# Altium footprint library ChargerPowerBuck2021.PcbLib: 10 footprints
Each footprint in its own frame and in the unit in brackets; x right, y up, seen from the top. Pads: shape width x height; smd on the part's side, far side on the other; paste and mask are expansions set on the pad; w line width, h text height; cw(c..) or ccw(c..) is an arc to the next point about the centre after c.
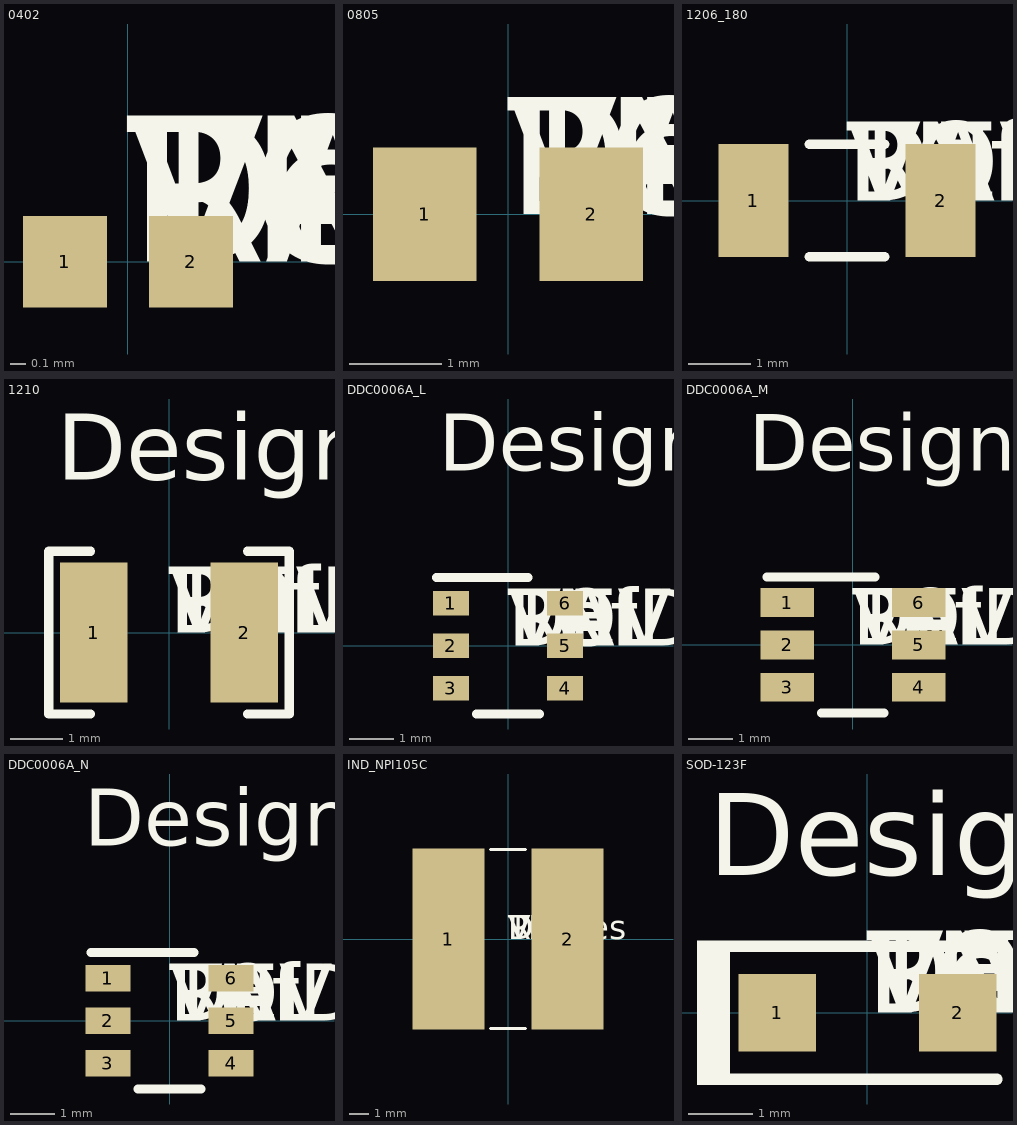
[diagram p0: the footprints below, top view; thin cyan lines are the x and y axes]

## 0402 [mil]
pads (2):
  rect 22x24 smd: 1(-16.5,0) 2(16.5,0)
Top Overlay:
  text "TOL" at 0,0 h50
  text "VAL" at 0,0 h50
  text "DEV" at 0,0 h50
  text "PN" at 0,0 h50
  text "DEV" at 0,0 h50
  text "RefDes" at 0,0 h50
3D body "0402.stp": height 22, standoff 0, extent -21.5,-12 21.5,12

## 0805 [mil]
pads (2):
  rect 44x57 smd: 1(-35.5,0) 2(35.5,0)
Top Overlay:
  text "RefDes" at 0,0 h50
  text "DEV" at 0,0 h50
  text "PN" at 0,0 h50
  text "DEV" at 0,0 h50
  text "VAL" at 0,0 h50
  text "TOL" at 0,0 h50
3D body "0805.stp": height 57, standoff 0, extent -43.5,-28.5 43.5,28.5

## 1206_180 [mil]
pads (2):
  rect 44x71 smd: 1(-59,0) 2(59,0)
Top Overlay:
  lines w6: -23.9,-35.5 23.9,-35.5 ; -23.9,35.5 23.9,35.5
  text "RefDes" at 0,0 h50
  text "DEV" at 0,0 h50
  text "PN" at 0,0 h50
  text "DEV" at 0,0 h50
  text "VAL" at 0,0 h50
  text "TOL" at 0,0 h50
3D body "1206_180.stp": height 30, standoff 0, extent -67,-35.5 67,35.5

## 1210 [mm]
pads (2):
  rect 1.3x2.7 smd paste+0 mask+0.051: 1(-1.45,0) 2(1.45,0)
Top Overlay:
  lines w0.178: -1.511,-1.568 -2.316,-1.568 -2.316,1.568 -1.511,1.568 ; 1.511,-1.568 2.316,-1.568 2.316,1.568 1.511,1.568
  text "Designator85" at -2.159,2.938 h1.27
  text "RefDes" at 0,0 h1.27
  text "DEV" at 0,0 h1.27
  text "PN" at 0,0 h1.27
  text "DEV" at 0,0 h1.27
  text "VAL" at 0,0 h1.27
  text "TOL" at 0,0 h1.27
3D body: height 0.25, standoff 0, extent 0,0 0.254,0.254

## DDC0006A_L [mm]
pads (6):
  rect 0.8x0.55 smd paste+0 mask+0.051: 1(-1.275,0.95) 2(-1.275,0) 3(-1.275,-0.95) 4(1.275,-0.95) 5(1.275,0) 6(1.275,0.95)
Top Overlay:
  lines w0.2: -1.603,1.525 0.45,1.525 ; -0.7,-1.524 0.7,-1.524
  text "Designator131" at -1.549,3.912 h1.27
  text "RefDes" at 0,0 h1.27
  text "DEV" at 0,0 h1.27
  text "PN" at 0,0 h1.27
  text "DEV" at 0,0 h1.27
  text "VAL" at 0,0 h1.27
  text "TOL" at 0,0 h1.27
3D body: height 0.25, standoff 0, extent 0,0 0.254,0.254

## DDC0006A_M [mm]
pads (6):
  rect 1.2x0.65 smd paste+0 mask+0.051: 1(-1.475,0.95) 2(-1.475,0) 3(-1.475,-0.95) 4(1.475,-0.95) 5(1.475,0) 6(1.475,0.95)
Top Overlay:
  lines w0.2: -1.925,1.525 0.5,1.525 ; -0.7,-1.524 0.7,-1.524
  text "Designator132" at -2.337,3.911 h1.27
  text "RefDes" at 0,0 h1.27
  text "DEV" at 0,0 h1.27
  text "PN" at 0,0 h1.27
  text "DEV" at 0,0 h1.27
  text "VAL" at 0,0 h1.27
  text "TOL" at 0,0 h1.27
3D body: height 0.25, standoff 0, extent 0,0 0.254,0.254

## DDC0006A_N [mm]
pads (6):
  rect 1x0.6 smd paste+0 mask+0.051: 1(-1.375,0.95) 2(-1.375,0) 3(-1.375,-0.95) 4(1.375,-0.95) 5(1.375,0) 6(1.375,0.95)
Top Overlay:
  lines w0.2: -1.75,1.525 0.55,1.525 ; -0.7,-1.524 0.7,-1.524
  text "Designator130" at -1.9,3.906 h1.27
  text "RefDes" at 0,0 h1.27
  text "DEV" at 0,0 h1.27
  text "PN" at 0,0 h1.27
  text "DEV" at 0,0 h1.27
  text "VAL" at 0,0 h1.27
  text "TOL" at 0,0 h1.27
3D body: height 0.25, standoff 0, extent 0,0 0.254,0.254

## IND_NPI105C [mil]
pads (2):
  rect 148x374 smd: 1(-123,0) 2(123,0)
Top Overlay:
  lines w6: -35.9,-185 35.9,-185 ; -35.9,185 35.9,185
  text "RefDes" at 0,0 h50
  text "DEV" at 0,0 h50
  text "PN" at 0,0 h50
  text "DEV" at 0,0 h50
  text "VAL" at 0,0 h50
  text "TOL" at 0,0 h50
3D body "IND_NPI105C.stp": height 240, standoff 0, extent -216.5,-204.5 216.5,204.5

## PCBComponent_1 [mm]

## SOD-123F [mm]
pads (2):
  rect 1.2x1.2 smd paste-0.05 mask+0.051: 1(-1.4,0) 2(1.4,0)
Top Overlay:
  region: -2.642,1.118 -2.642,-1.118 -2.134,-1.118 -2.134,1.118
  lines w0.178: -2.311,-1.029 2.007,-1.029 ; -2.311,1.029 2.007,1.029
  text "Designator9" at -2.464,2.134 h1.27
  text "RefDes" at 0,0 h1.27
  text "DEV" at 0,0 h1.27
  text "PN" at 0,0 h1.27
  text "DEV" at 0,0 h1.27
  text "VAL" at 0,0 h1.27
  text "TOL" at 0,0 h1.27
3D body: height 0.25, standoff 0, extent 0,0 0.254,0.254